# Altium schematic symbol library WireHousingMales6.SchLib: 1 symbol
Pins are listed as number, name and electrical type; pins without a type are passive.

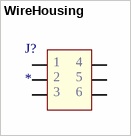
[diagram p0: symbol WireHousing]

## WireHousing
designator J?
pins: ?1, ?2, ?3, ?4, ?5, ?6
text: 1; 4; 2; 5; 3; 6